# Altium footprint library PCB - CAPACITOR - MLCC - CAP 2220_5650 3.3MM.PCBLIB: 1 footprints
Each footprint in its own frame and in the unit in brackets; x right, y up, seen from the top. Pads: shape width x height; smd on the part's side, far side on the other; paste and mask are expansions set on the pad; w line width, h text height; cw(c..) or ccw(c..) is an arc to the next point about the centre after c.
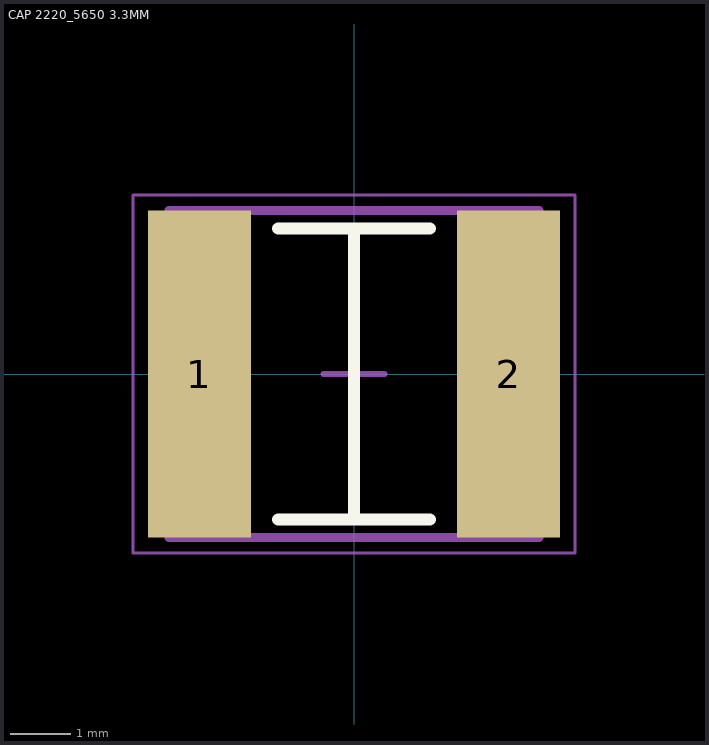
[diagram p0: the footprint, top view; thin cyan lines are the x and y axes]

## CAP 2220_5650 3.3MM [mm] "Chip Capacitor, 2-Leads, Body 5.70x5.00mm, IPC Medium Density"
height 3.3
pads (2):
  rect 1.7x5.4 smd: 1(-2.55,0) 2(2.55,0)
Top Overlay:
  lines w0.2: -1.25,-2.4 1.25,-2.4 ; -1.25,2.4 1.25,2.4 ; 0,-2.4 0,2.4
Top Assembly:
  lines w0.15: -3.05,-2.7 3.05,-2.7 3.05,2.7 -3.05,2.7 -3.05,-2.7
  text ".Designator" at -3.425,-0.344 h1.52
Top Component Center:
  lines w0.1: -0.5,0 0.5,0 ; 0,-0.5 0,0.5
Top Courtyard:
  lines w0.05: -3.65,-2.95 3.65,-2.95 3.65,2.95 -3.65,2.95 -3.65,-2.95
3D body "CAP 2020-3.3mm.STEP": height 3.3, standoff 0, extent -2.85,-2.5 2.85,2.5